# Altium schematic symbol library Opto_Schlib.SchLib: 1 symbol
Pins are listed as number, name and electrical type; pins without a type are passive.

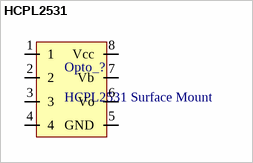
[diagram p0: symbol HCPL2531]

## HCPL2531
designator Opto_?, comment HCPL2531 Surface Mount
ComponentLink1Description: Datasheet; ComponentLink1URL: https://www.onsemi.com/pub/Collateral/HCPL2531-D.PDF
footprint HCPL2531 (HCPL2531 optocoupler)
footprint HCPL2531 (HCPL2531 optocoupler)
pins: 1, 2, 3, 4, 5 GND, 6 Vo, 7 Vb, 8 Vcc